# Altium integrated library ABM11-40.000MHZ-B7G-T.IntLib: 1 symbol
Pins are listed as number, name and electrical type; pins without a type are passive.

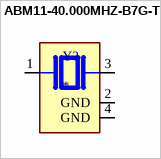
[diagram p0: symbol ABM11-40.000MHZ-B7G-T]

## ABM11-40.000MHZ-B7G-T
designator Y?
CRYSTAL, 40MHZ, 10PF, 2 X 1.6MM; Frequency Nom:40MHz; Crystal Case:SMD, 2mm x 1.6mm; Frequency Stability + / -:15ppm; Load Capacitance:10pF; Frequency Tolerance + / -:15ppm; Product Range:ABM11 Series; Operating Temperature Min:-20Â°CRoHS Compliant: Yes; MF: Abracon; MP: ABM1140000MHZB7GT; Package: None; Price: None; Value: *; SnapEDA_Link: https://www.snapeda.com/parts/ABM1140000MHZB7GT/Abracon/view-part/?ref=snap; Availability: Not in stock; Check_prices: https://www.snapeda.com/parts/ABM1140000MHZB7GT/Abracon/view-part/?ref=eda
footprint XTAL_ABM11-40.000MHZ-B7G-T
pins: 1, 2 GND (power), 3 2, 4 GND (power)